# Altium schematic symbol library Pot.SchLib: 1 symbol
Pins are listed as number, name and electrical type; pins without a type are passive.

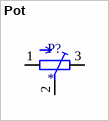
[diagram p0: symbol Pot]

## Pot
designator P?
footprint POT_B25P
footprint POT_CA6H
footprint POT_CA6V
footprint POT_CA9H
footprint POT_CA9V
footprint POT_CA14H
footprint POT_CA14V
footprint POT_CT6
footprint POT_PT-10
footprint POT_PT-10S
footprint POT_PT-SPIN
footprint POT_SMD_3x3.5x1.55
footprint POT-TVP1212
pins: 1 A, 2 S, 3 E